# EAGLE library part 1X13 (library Ai_Connectors)
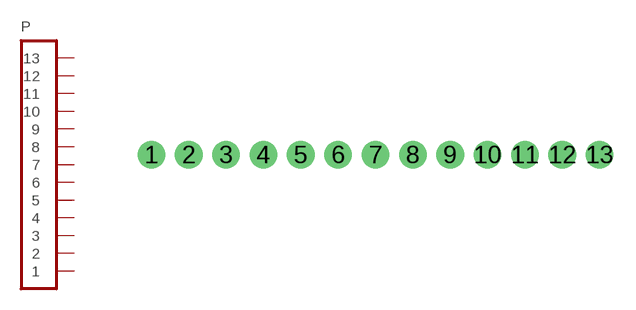
[diagram p11: symbol with the pads of 1X13-NOSILK; footprint 1X13-NOSILK]

Designator prefix P

## 1X13  [1X13-NOSILK]
1  1
2  2
3  3
4  4
5  5
6  6
7  7
8  8
9  9
10  10
11  11
12  12
13  13

## Footprint 1X13-NOSILK (pad centres in mm)
drill 1.016 pad 1.88: 1 -15.24,0; 2 -12.7,0; 3 -10.16,0; 4 -7.62,0; 5 -5.08,0; 6 -2.54,0; 7 0,0; 8 2.54,0; 9 5.08,0; 10 7.62,0; 11 10.16,0; 12 12.7,0; 13 15.24,0